# EAGLE library part B?56-12*WA (library EW_LCD_display)
14.22mm (0.56INCH) THREE DIGIT NUMERIC DISPLAY Source: http://www.kingbright.com .. BA56-11EWA(Ver1189474895.pdf
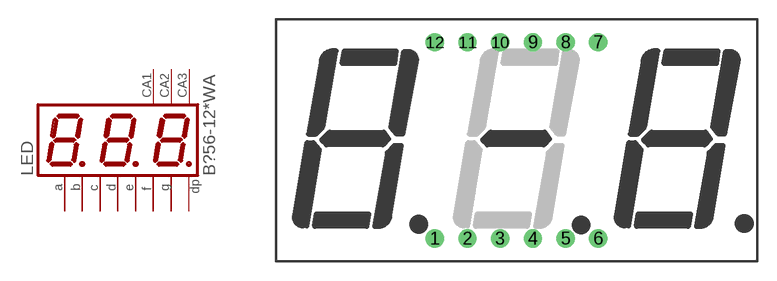
[diagram p86: symbol with the pads of BX56-12; footprint BX56-12]

Designator prefix LED

## BA56-12EWA (OC_FARNELL: unknown; OC_NEWARK: unknown), BA56-12GWA (OC_FARNELL: unknown; OC_NEWARK: unknown), BA56-12SRWA (OC_FARNELL: unknown; OC_NEWARK: unknown), BA56-12YWA (OC_FARNELL: unknown; OC_NEWARK: unknown)  [BX56-12]
1  E  pas
2  D  pas
3  DP  pas
4  C  pas
5  G  pas
7  B  pas
8  CA  pas
9  CA  pas
10  F  pas
11  A  pas
12  CA  pas

## BC56-12EWA (OC_FARNELL: unknown; OC_NEWARK: unknown), BC56-12GWA (OC_FARNELL: unknown; OC_NEWARK: unknown), BC56-12SRWA (OC_FARNELL: unknown; OC_NEWARK: unknown), BC56-12YWA (OC_FARNELL: unknown; OC_NEWARK: unknown)  [BX56-12]
Pads as for BX56-12

## Footprint BX56-12 (pad centres in mm)
14.22mm (0.56INCH) THREE DIGIT NUMERIC DISPLAY Source: http://www.kingbright.com .. BA56-11EWA(Ver1189474895.pdf
drill 0.8 pad 1.422: 1 -6.35,-7.62; 2 -3.81,-7.62; 3 -1.27,-7.62; 4 1.27,-7.62; 5 3.81,-7.62; 6 6.35,-7.62; 7 6.35,7.62; 8 3.81,7.62; 9 1.27,7.62; 10 -1.27,7.62; 11 -3.81,7.62; 12 -6.35,7.62